# EAGLE library part LTC1540 (library FEDPOWER)
LTC1540 - IC COMP NANOPOWER W/REF 8-MSOP Datasheets LTC1540 <http://www.linear.com/docs/1777> Product Photos 8-TSSOP 8-MSOP <http://media.digikey.com/Renders/~~Pkg.Case%20or%20Series/8-TSSOP_8-MSOP.jpg> Standard Package <javascript:dlgHelp('Standard%20Packaging%20Help');> 50 Category Integrated Circuits (ICs) </product-search/en/integrated-circuits-ics> Family Linear - Comparators </product-search/en/integrated-circuits-ics/linear-comparators/2556221> Series - Packaging <javascript:dlgHelp('Standard%20Packaging%20Help');> Tube <javascript:dlgHelp('Tube%20Help');> Type with Voltage Reference Number of Elements 1 Output Type CMOS, TTL Voltage - Supply, Single/Dual (±) 2 V ~ 11 V, ±1 V ~ 5.5 V Voltage - Input Offset (Max) 12mV @ 5V Current - Input Bias (Max) - Current - Output (Typ) - Current - Quiescent (Max) 680nA CMRR, PSRR (Typ) 80dB CMRR, 80dB PSRR Propagation Delay (Max) 60µs Hysteresis 50mV Operating Temperature 0°C ~ 70°C Package / Case 8-TSSOP, 8-MSOP (0.118", 3.00mm Width) Mounting Type Surface Mount Supplier Device Package 8-MSOP Online Catalog Comparators - 1 element </catalog/en/partgroup/comparators-1-element/3108?mpart=LTC1540CMS8%23PBF&vendor=161&WT.z_ref_page_type=PS&WT.z_ref_page_sub_type=PD&WT.z_ref_page_id=PD&WT.z_ref_page_event=DC_Link_Table> Other Names LTC1540CMS8PBF
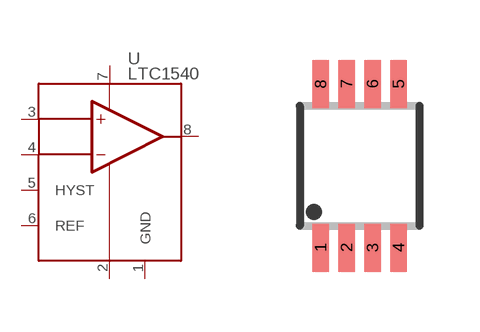
[diagram p1: symbol with the pads of MSOP8; footprint MSOP8]

Designator prefix U

## LTC1540  [MSOP8]
1  GND  pwr
2  V-  pwr
3  +IN  in
4  -IN  in
5  HYST
6  REF
7  V+  pwr
8  OUT  out

## Footprint MSOP8 (pad centres in mm)
MSOP8
smd 0.42 x 1.2: 1 -0.975,-2.05; 2 -0.325,-2.05; 3 0.325,-2.05; 4 0.975,-2.05; 5 0.975,2.05; 6 0.325,2.05; 7 -0.325,2.05; 8 -0.975,2.05